# Altium footprint library 原子战舰STM32F103ZET6.PcbLib: 20 footprints (part 1 of 2)
Each footprint in its own frame and in the unit in brackets; x right, y up, seen from the top. Pads: shape width x height; smd on the part's side, far side on the other; paste and mask are expansions set on the pad; w line width, h text height; cw(c..) or ccw(c..) is an arc to the next point about the centre after c.
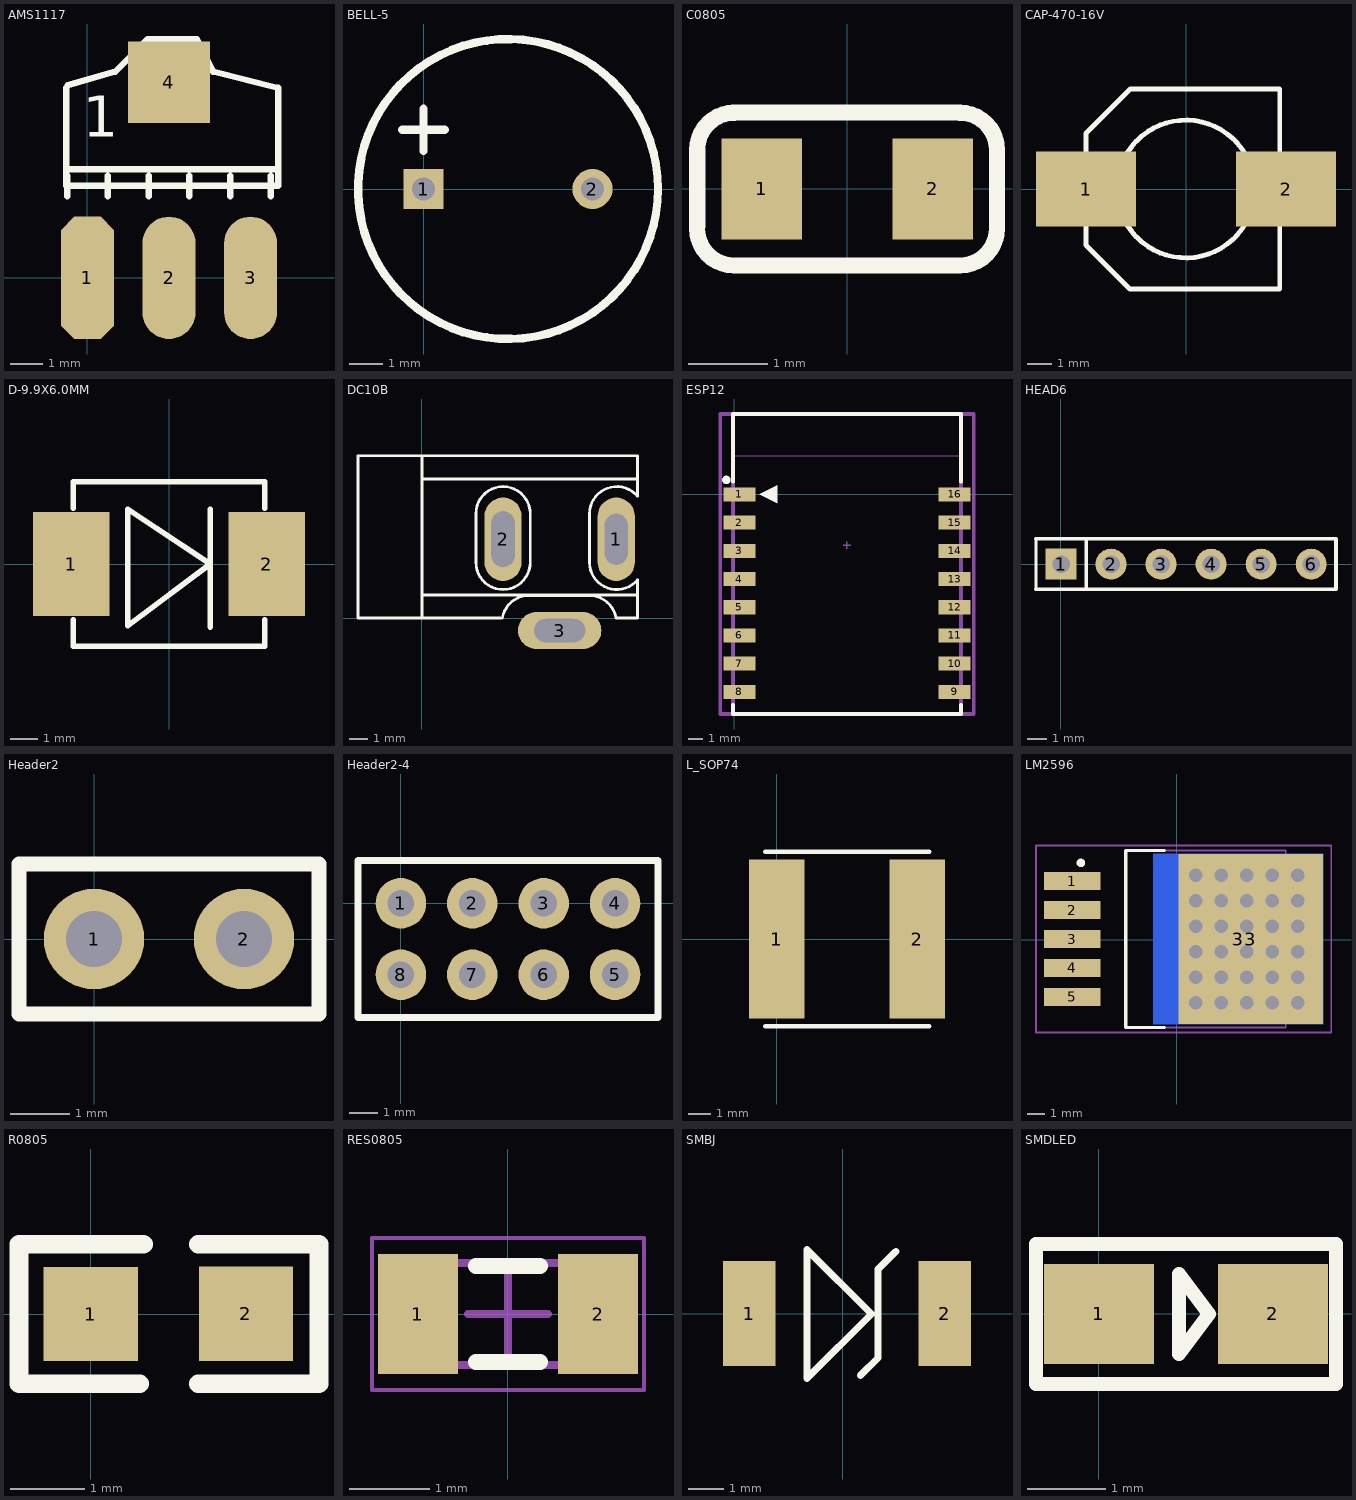
[diagram p0: the footprints below, top view; thin cyan lines are the x and y axes]

## AMS1117 [mil]
pads (4):
  oct 65x150 smd: 1(0.03,-0.06)
  oval 65x150 smd: 2(100.03,-0.06) 3(200.03,-0.06)
  rect 100x100 smd: 4(100.03,239.94)
Top Overlay:
  lines w7.87: -25.97,232.94 -25.97,132.94 ; -24.97,99.94 -24.97,124.94 ; -24.3,236.27 34.03,252.94 74.03,292.94 134.03,292.94 154.03,252.94 234.03,232.94 234.03,112.94 ; 25.03,99.94 25.03,124.94 ; 75.03,99.94 75.03,124.94 ; 125.03,99.94 125.03,124.94 ; 175.03,99.94 175.03,124.94 ; 225.03,99.94 225.03,124.94 ; -25.97,132.94 -25.97,112.94 234.03,112.94 ; -25.97,132.94 234.03,132.94 234.03,112.94
  text "1" at -5.97,172.94 h50

## BELL-5 [mm]
pads (2):
  rect 1.2x1.2 hole 0.7: 1(0,0)
  round 1.2 hole 0.7: 2(5.08,0)
Top Overlay:
  circle w0.254: c2.54,0 r4.51
  lines w0.254: -0.635,1.778 0.635,1.778 ; 0,1.143 0,2.413

## C0805 [mil]
pads (2):
  rect 40x50 smd: 1(-42.5,0) 2(42.5,0)
Top Overlay:
  lines w8: -74.61,-19.59 ccw(c-56.2,-19.59) -56.2,-38 ; -74.5,-18.5 -74.5,18.5 ; -74.5,19.5 cw(c-56.09,19.5) -56.09,37.91 ; -56.62,38 55.59,38 ; -55.2,-38 55.61,-38 ; 56.09,-38 ccw(c56.09,-19.59) 74.5,-19.59 ; 56.09,37.91 cw(c56.09,19.5) 74.5,19.5 ; 74.5,-18.59 74.5,18.5
3D body: height 30.39, standoff -0.39, extent -39.35,-24.61 39.39,24.61

## CAP-470-16V [mil]
pads (2):
  rect 160x120 smd: 1(-160,0) 2(160,0)
Top Overlay:
  circle w7.87: c-0.24,0 r110.24
  lines w7.87: -160,-90 -160,89.17 -89.17,160 150,160 150,-160 -90,-160 -160,-90
3D body: height 212.6, standoff 0, extent -147.8,-130 127.8,129.84

## D-9.9X6.0MM [mil]
pads (2):
  rect 110x150 smd: 1(-140.5,0) 2(140.5,0)
Top Overlay:
  lines w8: -137.8,-80 -137.8,-118.11 137.8,-118.11 137.8,-80 ; -137.8,80 -137.8,118.11 137.8,118.11 137.8,80 ; 59.06,-90.55 59.06,78.74 ; -59.06,-88.58 -59.06,78.74 59.06,0 -59.06,-88.58

## DC10B [mil]
pads (3):
  oval 80x180 hole 50 slot 110 at 90 deg: 1(419.09,170)
  oval 80x180 hole 50 slot 120 at 90 deg: 2(175,170)
  oval 180x80 hole 50 slot 110 at 0 deg: 3(297.05,-26.85)
Top Overlay:
  lines w6: 0,50 465,50 ; 0,300 460.13,300 464.25,300 ; 5,350 -15,350 -137.8,350 -137.8,0 0,0 ; 169,0 0,0 ; 173.37,0.16 cw(c231,-10) 231,48.52 361,48.52 cw(c361,-10) 418.63,0.16 ; 420,0 465,0 465,80 ; 464.83,82.38 cw(c420,120) 361.48,120 361.48,225 cw(c420,225) 464.83,262.62 465,350 0,350 0,0 ; 233.52,225 ccw(c175,225) 116.48,225 116.48,120 ccw(c175,120) 233.52,120 233.52,225 ; 233.52,225 233.52,225

## ESP12 [mm] "ESP-12 Wi-Fi Mod"
height 3.2
pads (16):
  rect 2.25x1 smd: 1(0.375,0) 2(0.375,-2) 3(0.375,-4) 4(0.375,-6) 5(0.375,-8) 6(0.375,-10) 7(0.375,-12) 8(0.375,-14) 9(15.625,-14) 10(15.625,-12) 11(15.625,-10) 12(15.625,-8) 13(15.625,-6) 14(15.625,-4) 15(15.625,-2) 16(15.625,0)
Top Overlay:
  circle w0.3: c-0.55,1.025 r0.15
  region: 1.77,0 3.04,-0.635 3.04,0.635
  lines w0.254: -0.084,-14.916 -0.084,-15.568 16.084,-15.568 16.084,-14.916 ; -0.084,0.916 -0.084,5.7 16.084,5.7 16.084,0.916
Mechanical 13:
  lines w0.051: -0.127,2.727 -0.127,5.7 16.129,5.7 16.129,2.727 -0.127,2.727
  lines w0.254: -0.084,-15.568 16.084,-15.568 16.084,5.7 -0.084,5.7 -0.084,-15.568
  text "3" at 7.874,-0.127 h0.25
Mechanical 15:
  lines w0.1: 7.746,-3.598 8.254,-3.598 ; 8,-3.852 8,-3.344
  lines w0.254: -0.975,-15.568 -0.975,5.7 16.975,5.7 16.975,-15.568 -0.975,-15.568
3D body: height 2.75, standoff 0.04, extent 0.001,-15.491 16.001,8.509

## HEAD6 [mil]
pads (6):
  rect 62x62 hole 35: 1(0.42,0.42)
  round 62 hole 35: 2(100.42,0.42) 3(200.43,0.42) 4(300.43,0.42) 5(400.43,0.42) 6(500.43,0.42)
Top Overlay:
  lines w6: -49.58,-49.58 -49.58,51.18
  lines w7: -49.58,-49.58 550,-49.58 550,51.18 -49.58,51.18 51.18,51.18 51.18,-49.58

## Header2 [mm]
pads (2):
  round 1.7 hole 0.95: 1(0,0) 2(2.54,0)
Top Overlay:
  lines w0.254: -1.27,-1.27 3.81,-1.27 3.81,1.27 -1.27,1.27 -1.27,-1.27
3D body: height 8.54, standoff -3, extent -1.27,-1.27 3.81,1.27

## Header2-4 [mm]
pads (8):
  round 1.8 hole 0.95: 1(0,0) 2(2.54,0) 3(5.08,0) 4(7.62,0) 5(7.62,-2.54) 6(5.08,-2.54) 7(2.54,-2.54) 8(0,-2.54)
Top Overlay:
  lines w0.254: -1.524,-4.064 -1.524,1.524 9.144,1.524 9.144,-4.064 -1.524,-4.064
3D body: height 8.54, standoff -3, extent -1.227,-3.801 8.933,1.279

## L_SOP74 [mm]
pads (2):
  rect 2.5x7.2 smd: 1(0,0) 2(6.35,0)
Top Overlay:
  lines w0.203: -0.508,-3.937 6.892,-3.937 ; -0.508,3.937 6.892,3.937

## LM2596 [mm]
pads (7):
  rect 3.3x1.05 smd: 1(-6.147,3.451) 2(-6.147,1.751) 3(-6.147,0.051) 4(-6.147,-1.649) 5(-6.147,-3.349)
  rect 10x10 smd far side: 3(3.625,0.05)
  rect 8.5x10 smd: 3(4.361,0.051)
via 5.611,-2.199 diameter 1 hole 0.8
via 5.611,-0.699 diameter 1 hole 0.8
via 4.111,-2.199 diameter 1 hole 0.8
via 4.111,-0.699 diameter 1 hole 0.8
via 5.611,2.301 diameter 1 hole 0.8
via 4.111,3.801 diameter 1 hole 0.8
via 4.111,2.301 diameter 1 hole 0.8
via 5.611,3.801 diameter 1 hole 0.8
via 5.611,-3.699 diameter 1 hole 0.8
via 4.111,-3.699 diameter 1 hole 0.8
via 5.611,0.801 diameter 1 hole 0.8
via 4.111,0.801 diameter 1 hole 0.8
via 1.111,-0.699 diameter 1 hole 0.8
via 1.111,-2.199 diameter 1 hole 0.8
via 1.111,2.301 diameter 1 hole 0.8
via 1.111,3.801 diameter 1 hole 0.8
via 2.611,-2.199 diameter 1 hole 0.8
via 2.611,-0.699 diameter 1 hole 0.8
via 2.611,2.301 diameter 1 hole 0.8
via 2.611,3.801 diameter 1 hole 0.8
via 7.111,-2.199 diameter 1 hole 0.8
via 1.111,-3.699 diameter 1 hole 0.8
via 1.111,0.801 diameter 1 hole 0.8
via 2.611,-3.699 diameter 1 hole 0.8
via 2.611,0.801 diameter 1 hole 0.8
via 7.111,-3.699 diameter 1 hole 0.8
via 7.111,3.801 diameter 1 hole 0.8
via 7.111,-0.699 diameter 1 hole 0.8
via 7.111,0.801 diameter 1 hole 0.8
via 7.111,2.301 diameter 1 hole 0.8
Top Overlay:
  circle w0.25: c-5.639,4.526 r0.125
  lines w0.2: -0.739,-5.149 -2.989,-5.149 -2.989,5.251 -0.739,5.251
Mechanical 13:
  lines w0.1: -2.989,-5.149 -2.989,5.251 6.411,5.251 6.411,-5.149 -2.989,-5.149
Mechanical 15:
  lines w0.1: -0.139,0.051 0.861,0.051 ; 0.361,-0.449 0.361,0.551 ; -8.275,-5.449 -8.275,5.551 9.073,5.551 9.073,-5.449 -8.275,-5.449
3D body: height 4.48, standoff 0, extent -7.025,-5.05 7.325,5.174

## R0805 [mil]
pads (2):
  rect 50x50 smd: 1(0,0) 2(82.3,0.2)
Top Overlay:
  lines w10: -38,35 -38,-37 26,-37 ; -38,37 28,37 ; 57,-37 121,-37 121,37 57,37
3D body: height 21.65, standoff 0, extent 1.43,-24.4 80.17,25.21

## RES0805 [mm]
height 1
pads (2):
  rect 1x1.5 smd: 1(-1.125,0) 2(1.125,0)
Top Overlay:
  lines w0.2: -0.4,-0.6 0.4,-0.6 ; -0.4,0.6 0.4,0.6
Mechanical 13:
  lines w0.1: -1,-0.635 1,-0.635 1,0.635 -1,0.635 -1,-0.635
Mechanical 15:
  lines w0.05: -1.7,-0.95 1.7,-0.95 1.7,0.95 -1.7,0.95 -1.7,-0.95
  lines w0.1: -0.5,0 0.5,0 ; 0,-0.5 0,0.5
3D body: height 0.55, standoff 0, extent -1,-0.635 1,0.625

## SMBJ [mm]
pads (2):
  rect 1.5x3 smd: 1(-2.667,0) 2(2.921,0)
Top Overlay:
  lines w0.203: 0.508,-1.778 1.016,-1.27 1.016,1.27 1.524,1.778 ; -1.016,-1.854 0.826,-0.013 -1.016,1.829 -1.016,-1.854

## SMDLED [mm]
pads (2):
  rect 1.4x1.27 smd: 1(0.001,-0.002) 2(2.211,-0.002)
Top Overlay:
  lines w0.178: 3.012,0.887 3.011,0.887 ; 3.011,0.887 -0.799,0.887 -0.799,-0.002 -0.799,-0.891 3.011,-0.891 3.011,0.887 ; 1.017,-0.51 1.398,-0.002 1.017,0.506 1.017,-0.51